# Altium schematic symbol library SpecificComponents.SchLib: 18 symbols
Pins are listed as number, name and electrical type; pins without a type are passive.

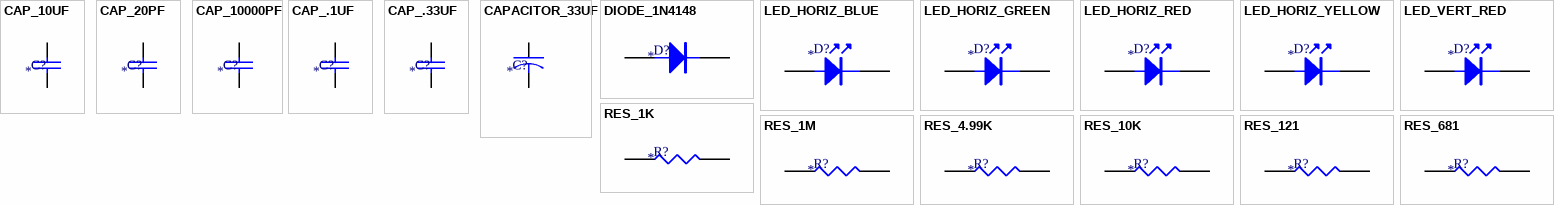
[diagram p0: symbols CAP_10UF to RES_681]

## CAP_10UF
designator C?
10 uF ceramic capacitor; Text Field1: 399-1299-1-ND; Text Field2: C1206C106Z8VACTU
footprint 1206
pins: 1, 2

## CAP_20PF
designator C?
20pF ceramic capacitor; Text Field1: PCC200CCT-ND
footprint 1206
pins: 1, 2

## CAP_10000PF
designator C?
10000pF ceramic capacitor; Text Field1: 399-1234-1-ND
footprint 1206
pins: 1, 2

## CAP_.1UF
designator C?
.1uF ceramic capacitor; Text Field1: 311-1179-1-ND
footprint 1206
pins: 1, 2

## CAP_.33UF
designator C?
.33uF ceramic capacitor; Text Field1: PCC1889CT-ND
footprint 1206
pins: 1, 2

## CAPACITOR_33UF
designator C?
33uF tantalum capacitor; Text Field1: 399-1575-1-ND; Text Field2: Kemet: T491C476K010AS; Text Field3: for the voltage regulator output capacitor
footprint T491C
pins: 1, 2

## DIODE_1N4148
designator D?
1N4148 .7V drop diode; Text Field1: MMBD4148DICT-ND; Text Field2: Diodes Inc: MMBD4148-7
footprint SOT-23_DIODE
footprint SOT-23
footprint SOD-123
footprint DIODE_1206
pins: 1 A, 2 C

## LED_HORIZ_BLUE
designator D?
Blue 'flat mount' led; Text Field1: 160-1483--1-ND; Text Field2: LTST-S320CBKT
footprint 1206_LED
pins: 1 ANODE, 2 CATHODE

## LED_HORIZ_GREEN
designator D?
Red 'flat mount' led; Text Field1: 160-1206-1-ND; Text Field2: LTST-S320GKT
footprint 1206_LED
pins: 1 ANODE, 2 CATHODE

## LED_HORIZ_RED
designator D?
Red 'flat mount' led; Text Field1: 160-1484-1-ND; Text Field2: LTST-S320KAKT
footprint 1206_LED
pins: 1 ANODE, 2 CATHODE

## LED_HORIZ_YELLOW
designator D?
Red 'flat mount' led; Text Field1: 160-1207-1-ND; Text Field2: LTST-S320YKT
footprint 1206_LED
pins: 1 ANODE, 2 CATHODE

## LED_VERT_RED
designator D?
Red 'flat mount' led; Text Field1: 67-1371-1; Text Field3: Standard heartbeat LED
footprint 1206
pins: 1 ANODE, 2 CATHODE

## RES_1K
designator R?
1 Kohm resistor, 1%; Text Field1: P1.00KFCT-ND
footprint 1206
pins: 1, 2

## RES_1M
designator R?
1 Mohm resistor, 1%; Text Field1: P1.00MFCT-ND
footprint 1206
pins: 1, 2

## RES_4.99K
designator R?
4.99 Kohm resistor, 1%; Text Field1: P4.99KFCT-ND
footprint 1206
pins: 1, 2

## RES_10K
designator R?
10 Kohm resistor, 1%; Text Field1: P10.0KFCT-ND
footprint 1206
pins: 1, 2

## RES_121
designator R?
121 ohm resistor, 1%; Text Field1: P121FCT-ND
footprint 1206
pins: 1, 2

## RES_681
designator R?
681 ohm resistor, 1%; Text Field1: P681FCT-ND
footprint 1206
pins: 1, 2